# EAGLE library part TPS53015 (library FaBo-Supply)
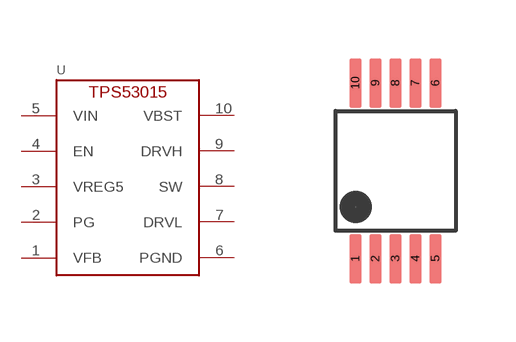
[diagram p9: symbol with the pads of TPS53015; footprint TPS53015]

Designator prefix U

## TPS53015  [TPS53015]
1  VFB
2  PG
3  VREG5
4  EN
5  VIN
6  PGND
7  DRVL
8  SW
9  DRVH
10  VBST

## Footprint TPS53015 (pad centres in mm)
smd 0.3 x 1.24: 1 -1,-2.2; 2 -0.5,-2.2; 3 0,-2.2; 4 0.5,-2.2; 5 1,-2.2; 6 1,2.2; 7 0.5,2.2; 8 0,2.2; 9 -0.5,2.2; 10 -1,2.2